# EAGLE library part PT2399_MB (library integrated circuits)
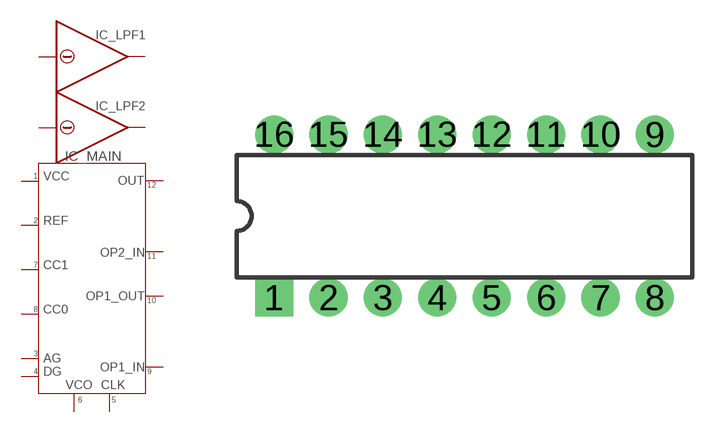
[diagram p19: symbol with the pads of DIL16; footprint DIL16]

Designator prefix IC; gates _LPF1=LPF _LPF2=LPF _MAIN=MAIN

## PT2399_MB  [DIL16]
1  _MAIN:1
2  _MAIN:2
3  _MAIN:3
4  _MAIN:4
5  _MAIN:5
6  _MAIN:6
7  _MAIN:7
8  _MAIN:8
9  _MAIN:9
10  _MAIN:10
11  _MAIN:11
12  _MAIN:12
13  _LPF2:IN
14  _LPF2:OUT
15  _LPF1:OUT
16  _LPF1:IN

## Footprint DIL16 (pad centres in mm)
Dual In Line Package
drill 1.016 pad 1.778 square: 1 -8.89,-3.81
drill 1.016 pad 1.778: 2 -6.35,-3.81; 3 -3.81,-3.81; 4 -1.27,-3.81; 5 1.27,-3.81; 6 3.81,-3.81; 7 6.35,-3.81; 8 8.89,-3.81; 9 8.89,3.81; 10 6.35,3.81; 11 3.81,3.81; 12 1.27,3.81; 13 -1.27,3.81; 14 -3.81,3.81; 15 -6.35,3.81; 16 -8.89,3.81